# Altium footprint library FOC_BOARD.PcbLib: 14 footprints
Each footprint in its own frame and in the unit in brackets; x right, y up, seen from the top. Pads: shape width x height; smd on the part's side, far side on the other; paste and mask are expansions set on the pad; w line width, h text height; cw(c..) or ccw(c..) is an arc to the next point about the centre after c.
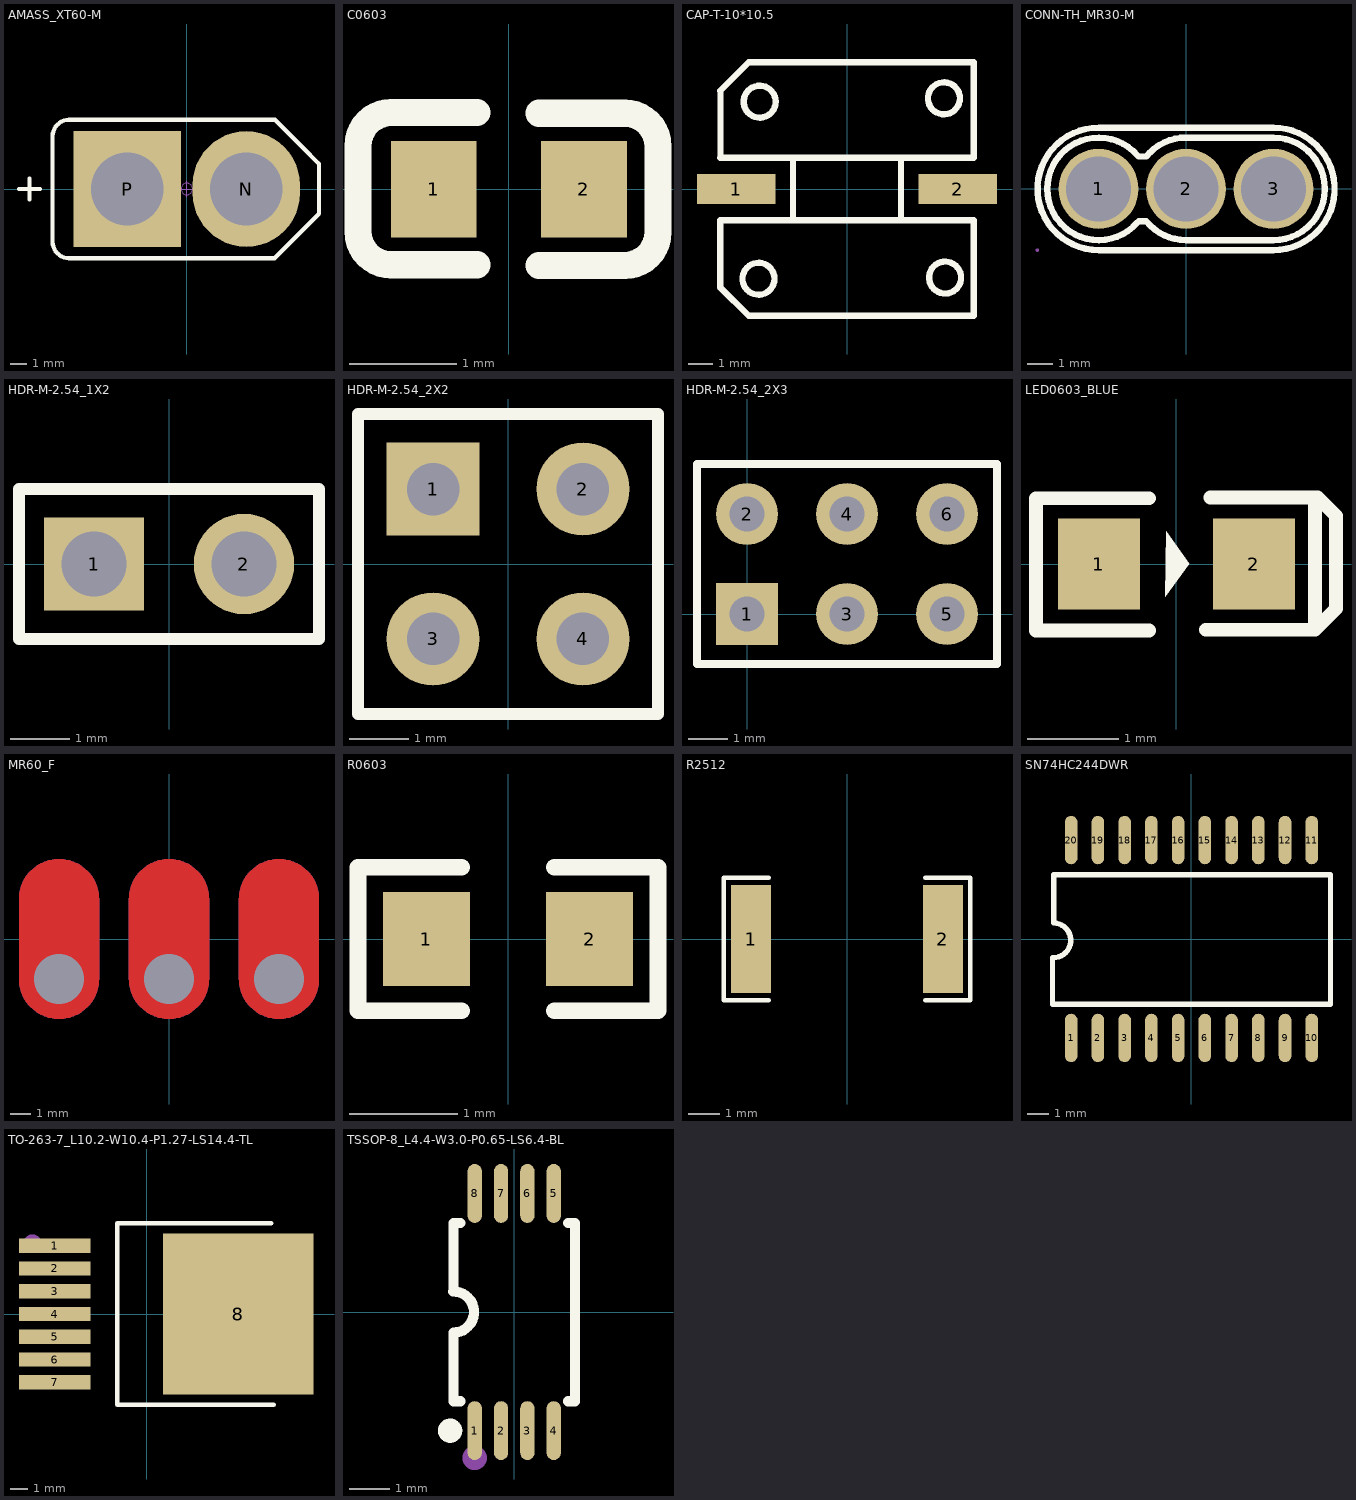
[diagram p0: the footprints below, top view; thin cyan lines are the x and y axes]

## AMASS_XT60-M [mm] "长：16mm，宽：8.2mm，高：16mm"
pads (2):
  oval 6.5x7 hole 4.4: N(3.6,0)
  rect 6.5x7 hole 4.4: P(-3.6,0)
Top Overlay:
  lines w0.254: -10.16,0 -8.89,0 ; -9.525,-0.635 -9.525,0.635 ; -8.128,-3.191 ccw(c-7.128,-3.191) -7.128,-4.191 5.309,-4.191 8,-1.5 8,1.525 6.985,2.54 5.334,4.191 -7.128,4.191 ccw(c-7.128,3.191) -8.128,3.191 -8.128,-3.191
Mechanical 15:
  circle w0.05: c0,0 r0.35
  lines w0.05: -0.5,0 0.5,0 ; 0,-0.5 0,0.5
3D body "TX60-LI-P.STEP": height 15.85, standoff -2.25, extent -8,-4.1 8,4.1

## C0603 [mm]
pads (2):
  rect 0.8x0.9 smd: 1(-0.7,0) 2(0.7,0)
Top Overlay:
  lines w0.254: -0.296,-0.704 -1.096,-0.704 cw(c-1.096,-0.394) -1.406,-0.394 -1.405,0.406 cw(c-1.096,0.406) -1.096,0.715 -0.296,0.715 ; 0.28,-0.71 1.08,-0.71 ccw(c1.08,-0.4) 1.39,-0.4 1.39,0.4 ccw(c1.08,0.4) 1.08,0.71 0.28,0.71
3D body "R0603.STEP": height 0.45, standoff 0, extent -0.825,-0.4 0.775,0.4

## CAP-T-10*10.5 [mm]
pads (2):
  rect 3.2x1.2 smd: 1(-4.5,0) 2(4.5,0)
Top Overlay:
  circle w0.254: c-3.599,-3.65 r0.65
  circle w0.254: c-3.551,3.551 r0.65
  circle w0.254: c3.99,-3.602 r0.65
  circle w0.254: c3.942,3.688 r0.65
  lines w0.254: -5.151,1.27 5.149,1.27 5.15,1.27 5.15,5.15 ; -5.15,-4.007 -5.15,-1.27 5.15,-1.27 5.15,-5.15 -4,-5.15 -5.143,-4.007 ; -5.15,4 -4,5.15 5.15,5.15 ; -5.143,1.27 -5.143,4 ; -2.2,-1.25 -2.2,1.25 ; 2.2,-1.239 2.2,1.261 ; 5.149,5.15 5.15,5.15
Mechanical 1:
  lines w0.254: -5.15,-4.007 -5.143,-4.007
3D body "SW3dPS-capacitor size G.STEP": height 10.21, standoff -0.01, extent -5.8,-5.118 5.8,5.182

## CONN-TH_MR30-M [mm]
pads (3):
  round 3.2 hole 2.6 mask+0.05: 1(-3.5,0) 2(0,0) 3(3.5,0)
Top Overlay:
  lines w0.254: 0,-2.051 cw(c0,0.001) -1.593,-1.293 -1.899,-1.293 -1.949,-1.344 cw(c-3.5,0) -1.949,1.344 -1.9,1.294 -1.593,1.294 cw(c0,0) 0,2.052 ; 0.01,-2.052 3.5,-2.052 ccw(c3.5,0) 3.5,2.052 0.01,2.052 ; -3.487,-2.45 cw(c-3.494,0) -3.487,2.45 3.487,2.45 cw(c3.494,0) 3.487,-2.45 -3.487,-2.45
Mechanical 6:
  drawing of 11 lines, arcs and shapes, not listed
Mechanical 15:
  region: 4.75,0 4.75,0.165 4.665,0.483 4.5,0.768 4.268,1 3.983,1.165 3.665,1.25 3.335,1.25 3.017,1.165 2.732,1 2.5,0.768 2.335,0.483 2.25,0.165 2.25,0 2.25,-0.165 2.335,-0.483 2.5,-0.768 2.732,-1 3.017,-1.165 3.335,-1.25 3.665,-1.25 3.983,-1.165 4.268,-1 4.5,-0.768 4.665,-0.483 4.75,-0.165 4.75,0
  region: 1.25,0 1.25,0.165 1.165,0.483 1,0.768 0.768,1 0.483,1.165 0.165,1.25 -0.164,1.25 -0.482,1.165 -0.767,1 -1,0.768 -1.165,0.483 -1.25,0.165 -1.25,0 -1.25,-0.165 -1.165,-0.483 -1,-0.768 -0.767,-1 -0.482,-1.165 -0.164,-1.25 0.165,-1.25 0.483,-1.165 0.768,-1 1,-0.768 1.165,-0.483 1.25,-0.165 1.25,0
  region: -2.25,0 -2.25,0.165 -2.335,0.483 -2.5,0.768 -2.732,1 -3.017,1.165 -3.335,1.25 -3.665,1.25 -3.983,1.165 -4.268,1 -4.5,0.768 -4.665,0.483 -4.75,0.165 -4.75,0 -4.75,-0.165 -4.665,-0.483 -4.5,-0.768 -4.268,-1 -3.983,-1.165 -3.665,-1.25 -3.335,-1.25 -3.017,-1.165 -2.732,-1 -2.5,-0.768 -2.335,-0.483 -2.25,-0.165 -2.25,0
  region: -5.885,-2.45 -5.885,-2.425 -5.92,-2.39 -5.969,-2.39 -6.004,-2.425 -6.004,-2.45 -6.004,-2.475 -5.969,-2.51 -5.92,-2.51 -5.885,-2.475 -5.885,-2.45
  lines w0.051: -5.944,0 cw(c-3.494,0) -3.494,2.45 -0.1,2.45 3.494,2.45 cw(c3.494,0) 5.944,0 cw(c3.494,0) 3.494,-2.45 0,-2.45 -3.494,-2.45 cw(c-3.494,0) -5.944,0

## HDR-M-2.54_1X2 [mm]
pads (2):
  rect 1.7x1.575 hole 1.1: 1(-1.27,0)
  round 1.7 hole 1.1: 2(1.27,0)
Top Overlay:
  lines w0.203: -2.54,-1.27 -2.54,1.27 -0.635,1.27 2.54,1.27 2.54,-1.27 -2.54,-1.27
3D body: height 1.27, standoff 0, extent -1.778,-0.508 -0.762,0.508
3D body: height 1.27, standoff 0, extent -1.346,-0.076 -1.194,0.076
3D body "HDR2.54-1P.STEP": height 8.5, standoff -3, extent -2.54,-1.27 0,1.27
3D body "HDR2.54-1P.STEP": height 8.5, standoff -3, extent 0,-1.27 2.54,1.27

## HDR-M-2.54_2X2 [mil]
pads (4):
  rect 62x62 hole 35: 1(-50,50)
  round 62 hole 35: 2(50,50) 3(-50,-50) 4(50,-50)
Top Overlay:
  lines w8: -100,-100 -100,100 100,100 100,-100 -100,-100
3D body "HDR2.54-1x2P.STEP": height 334.65, standoff -118.11, extent -100,-100 0,100
3D body "HDR2.54-1x2P.STEP": height 334.65, standoff -118.11, extent 0,-100 100,100

## HDR-M-2.54_2X3 [mil]
pads (6):
  rect 62x62 hole 35: 1(0,0)
  round 62 hole 35: 2(0,100) 3(100,0) 4(100,100) 5(200,0) 6(200,100)
Top Overlay:
  lines w8: 58.33,-50 250,-50 ; 250,-50 250,150 -50,150 -50,-50 250,-50
3D body "HDR2.54-1x2P.STEP": height 334.65, standoff -118.11, extent 50,-50 150,150
3D body "HDR2.54-1x2P.STEP": height 334.65, standoff -118.11, extent 150,-50 250,150
3D body "HDR2.54-1x2P.STEP": height 334.65, standoff -118.11, extent -50,-50 50,150

## LED0603_BLUE [mm]
pads (2):
  rect 0.9x1 smd: 1(-0.85,0) 2(0.85,0)
Top Overlay:
  region: -0.11,0.36 -0.12,-0.36 0.14,0
  lines w0.15: -0.3,-0.73 -1.54,-0.73 -1.54,0.72 -0.3,0.72 ; 0.32,-0.72 1.52,-0.72 ; 0.37,0.73 1.52,0.73 ; 1.52,-0.72 1.72,-0.52 1.75,-0.49 1.75,0.53 1.55,0.73 1.52,0.73 ; 1.52,-0.72 1.52,0.73
3D body "LED 0603-B.STEP": height 0.47, standoff 0, extent -0.8,-0.401 0.8,0.401

## MR60_F [mm]
pads (3):
  round 0 hole 2.5: 1(-5.5,-2) 2(0,-2) 3(5.5,-2)
Top Layer:
  region: 5.45,-3.999 5.351,-3.994 5.251,-3.984 5.153,-3.97 5.055,-3.95 4.958,-3.925 4.863,-3.896 4.769,-3.862 4.677,-3.823 4.588,-3.78 4.5,-3.732 4.415,-3.68 4.333,-3.624 4.253,-3.564 4.177,-3.5 4.104,-3.432 4.034,-3.36 3.968,-3.286 3.906,-3.208 3.848,-3.127 3.793,-3.043 3.744,-2.957 3.698,-2.868 3.657,-2.777 3.621,-2.684 3.589,-2.59 3.562,-2.494 3.54,-2.396 3.522,-2.298 3.51,-2.199 3.502,-2.1 3.5,-2 3.5,2 3.502,2.1 3.51,2.199 3.522,2.298 3.54,2.396 3.562,2.494 3.589,2.59 3.621,2.684 3.657,2.777 3.698,2.868 3.744,2.957 3.793,3.043 3.848,3.127 3.906,3.208 3.968,3.286 4.034,3.36 4.104,3.432 4.177,3.5 4.253,3.564 4.333,3.624 4.415,3.68 4.5,3.732 4.588,3.78 4.677,3.823 4.769,3.862 4.863,3.896 4.958,3.925 5.055,3.95 5.153,3.97 5.251,3.984 5.351,3.994 5.45,3.999 5.55,3.999 5.649,3.994 5.749,3.984 5.847,3.97 5.945,3.95 6.042,3.925 6.137,3.896 6.231,3.862 6.323,3.823 6.412,3.78 6.5,3.732 6.585,3.68 6.667,3.624 6.747,3.564 6.823,3.5 6.896,3.432 6.966,3.36 7.032,3.286 7.094,3.208 7.152,3.127 7.207,3.043 7.256,2.957 7.302,2.868 7.343,2.777 7.379,2.684 7.411,2.59 7.438,2.494 7.46,2.396 7.478,2.298 7.49,2.199 7.497,2.1 7.5,2 7.5,-2 7.497,-2.1 7.49,-2.199 7.478,-2.298 7.46,-2.396 7.438,-2.494 7.411,-2.59 7.379,-2.684 7.343,-2.777 7.302,-2.868 7.256,-2.957 7.207,-3.043 7.152,-3.127 7.094,-3.208 7.032,-3.286 6.966,-3.36 6.896,-3.432 6.823,-3.5 6.747,-3.564 6.667,-3.624 6.585,-3.68 6.5,-3.732 6.412,-3.78 6.323,-3.823 6.231,-3.862 6.137,-3.896 6.042,-3.925 5.945,-3.95 5.847,-3.97 5.749,-3.984 5.649,-3.994 5.55,-3.999
  region: -5.55,-3.999 -5.649,-3.994 -5.749,-3.984 -5.847,-3.97 -5.945,-3.95 -6.042,-3.925 -6.137,-3.896 -6.231,-3.862 -6.323,-3.823 -6.412,-3.78 -6.5,-3.732 -6.585,-3.68 -6.667,-3.624 -6.747,-3.564 -6.823,-3.5 -6.896,-3.432 -6.966,-3.36 -7.032,-3.286 -7.094,-3.208 -7.152,-3.127 -7.207,-3.043 -7.256,-2.957 -7.302,-2.868 -7.343,-2.777 -7.379,-2.684 -7.411,-2.59 -7.438,-2.494 -7.46,-2.396 -7.478,-2.298 -7.49,-2.199 -7.497,-2.1 -7.5,-2 -7.5,2 -7.497,2.1 -7.49,2.199 -7.478,2.298 -7.46,2.396 -7.438,2.494 -7.411,2.59 -7.379,2.684 -7.343,2.777 -7.302,2.868 -7.256,2.957 -7.207,3.043 -7.152,3.127 -7.094,3.208 -7.032,3.286 -6.966,3.36 -6.896,3.432 -6.823,3.5 -6.747,3.564 -6.667,3.624 -6.585,3.68 -6.5,3.732 -6.412,3.78 -6.323,3.823 -6.231,3.862 -6.137,3.896 -6.042,3.925 -5.945,3.95 -5.847,3.97 -5.749,3.984 -5.649,3.994 -5.55,3.999 -5.45,3.999 -5.351,3.994 -5.251,3.984 -5.153,3.97 -5.055,3.95 -4.958,3.925 -4.863,3.896 -4.769,3.862 -4.677,3.823 -4.588,3.78 -4.5,3.732 -4.415,3.68 -4.333,3.624 -4.253,3.564 -4.177,3.5 -4.104,3.432 -4.034,3.36 -3.968,3.286 -3.906,3.208 -3.848,3.127 -3.793,3.043 -3.744,2.957 -3.698,2.868 -3.657,2.777 -3.621,2.684 -3.589,2.59 -3.562,2.494 -3.54,2.396 -3.522,2.298 -3.51,2.199 -3.502,2.1 -3.5,2 -3.5,-2 -3.502,-2.1 -3.51,-2.199 -3.522,-2.298 -3.54,-2.396 -3.562,-2.494 -3.589,-2.59 -3.621,-2.684 -3.657,-2.777 -3.698,-2.868 -3.744,-2.957 -3.793,-3.043 -3.848,-3.127 -3.906,-3.208 -3.968,-3.286 -4.034,-3.36 -4.104,-3.432 -4.177,-3.5 -4.253,-3.564 -4.333,-3.624 -4.415,-3.68 -4.5,-3.732 -4.588,-3.78 -4.677,-3.823 -4.769,-3.862 -4.863,-3.896 -4.958,-3.925 -5.055,-3.95 -5.153,-3.97 -5.251,-3.984 -5.351,-3.994 -5.45,-3.999
  region: -0.05,-3.999 -0.149,-3.994 -0.249,-3.984 -0.347,-3.97 -0.445,-3.95 -0.542,-3.925 -0.637,-3.896 -0.731,-3.862 -0.823,-3.823 -0.912,-3.78 -1,-3.732 -1.085,-3.68 -1.167,-3.624 -1.247,-3.564 -1.323,-3.5 -1.396,-3.432 -1.466,-3.36 -1.532,-3.286 -1.594,-3.208 -1.652,-3.127 -1.707,-3.043 -1.756,-2.957 -1.802,-2.868 -1.843,-2.777 -1.879,-2.684 -1.911,-2.59 -1.938,-2.494 -1.96,-2.396 -1.978,-2.298 -1.99,-2.199 -1.998,-2.1 -2,-2 -2,2 -1.998,2.1 -1.99,2.199 -1.978,2.298 -1.96,2.396 -1.938,2.494 -1.911,2.59 -1.879,2.684 -1.843,2.777 -1.802,2.868 -1.756,2.957 -1.707,3.043 -1.652,3.127 -1.594,3.208 -1.532,3.286 -1.466,3.36 -1.396,3.432 -1.323,3.5 -1.247,3.564 -1.167,3.624 -1.085,3.68 -1,3.732 -0.912,3.78 -0.823,3.823 -0.731,3.862 -0.637,3.896 -0.542,3.925 -0.445,3.95 -0.347,3.97 -0.249,3.984 -0.149,3.994 -0.05,3.999 0.05,3.999 0.149,3.994 0.249,3.984 0.347,3.97 0.445,3.95 0.542,3.925 0.637,3.896 0.731,3.862 0.823,3.823 0.912,3.78 1,3.732 1.085,3.68 1.167,3.624 1.247,3.564 1.323,3.5 1.396,3.432 1.466,3.36 1.532,3.286 1.594,3.208 1.652,3.127 1.707,3.043 1.756,2.957 1.802,2.868 1.843,2.777 1.879,2.684 1.911,2.59 1.938,2.494 1.96,2.396 1.978,2.298 1.99,2.199 1.998,2.1 2,2 2,-2 1.998,-2.1 1.99,-2.199 1.978,-2.298 1.96,-2.396 1.938,-2.494 1.911,-2.59 1.879,-2.684 1.843,-2.777 1.802,-2.868 1.756,-2.957 1.707,-3.043 1.652,-3.127 1.594,-3.208 1.532,-3.286 1.466,-3.36 1.396,-3.432 1.323,-3.5 1.247,-3.564 1.167,-3.624 1.085,-3.68 1,-3.732 0.912,-3.78 0.823,-3.823 0.731,-3.862 0.637,-3.896 0.542,-3.925 0.445,-3.95 0.347,-3.97 0.249,-3.984 0.149,-3.994 0.05,-3.999
Mid-Layer 1:
  region: 5.45,-3.999 5.351,-3.994 5.251,-3.984 5.153,-3.97 5.055,-3.95 4.958,-3.925 4.863,-3.896 4.769,-3.862 4.677,-3.823 4.588,-3.78 4.5,-3.732 4.415,-3.68 4.333,-3.624 4.253,-3.564 4.177,-3.5 4.104,-3.432 4.034,-3.36 3.968,-3.286 3.906,-3.208 3.848,-3.127 3.793,-3.043 3.744,-2.957 3.698,-2.868 3.657,-2.777 3.621,-2.684 3.589,-2.59 3.562,-2.494 3.54,-2.396 3.522,-2.298 3.51,-2.199 3.502,-2.1 3.5,-2 3.5,2 3.502,2.1 3.51,2.199 3.522,2.298 3.54,2.396 3.562,2.494 3.589,2.59 3.621,2.684 3.657,2.777 3.698,2.868 3.744,2.957 3.793,3.043 3.848,3.127 3.906,3.208 3.968,3.286 4.034,3.36 4.104,3.432 4.177,3.5 4.253,3.564 4.333,3.624 4.415,3.68 4.5,3.732 4.588,3.78 4.677,3.823 4.769,3.862 4.863,3.896 4.958,3.925 5.055,3.95 5.153,3.97 5.251,3.984 5.351,3.994 5.45,3.999 5.55,3.999 5.649,3.994 5.749,3.984 5.847,3.97 5.945,3.95 6.042,3.925 6.137,3.896 6.231,3.862 6.323,3.823 6.412,3.78 6.5,3.732 6.585,3.68 6.667,3.624 6.747,3.564 6.823,3.5 6.896,3.432 6.966,3.36 7.032,3.286 7.094,3.208 7.152,3.127 7.207,3.043 7.256,2.957 7.302,2.868 7.343,2.777 7.379,2.684 7.411,2.59 7.438,2.494 7.46,2.396 7.478,2.298 7.49,2.199 7.497,2.1 7.5,2 7.5,-2 7.497,-2.1 7.49,-2.199 7.478,-2.298 7.46,-2.396 7.438,-2.494 7.411,-2.59 7.379,-2.684 7.343,-2.777 7.302,-2.868 7.256,-2.957 7.207,-3.043 7.152,-3.127 7.094,-3.208 7.032,-3.286 6.966,-3.36 6.896,-3.432 6.823,-3.5 6.747,-3.564 6.667,-3.624 6.585,-3.68 6.5,-3.732 6.412,-3.78 6.323,-3.823 6.231,-3.862 6.137,-3.896 6.042,-3.925 5.945,-3.95 5.847,-3.97 5.749,-3.984 5.649,-3.994 5.55,-3.999
  region: -5.55,-3.999 -5.649,-3.994 -5.749,-3.984 -5.847,-3.97 -5.945,-3.95 -6.042,-3.925 -6.137,-3.896 -6.231,-3.862 -6.323,-3.823 -6.412,-3.78 -6.5,-3.732 -6.585,-3.68 -6.667,-3.624 -6.747,-3.564 -6.823,-3.5 -6.896,-3.432 -6.966,-3.36 -7.032,-3.286 -7.094,-3.208 -7.152,-3.127 -7.207,-3.043 -7.256,-2.957 -7.302,-2.868 -7.343,-2.777 -7.379,-2.684 -7.411,-2.59 -7.438,-2.494 -7.46,-2.396 -7.478,-2.298 -7.49,-2.199 -7.497,-2.1 -7.5,-2 -7.5,2 -7.497,2.1 -7.49,2.199 -7.478,2.298 -7.46,2.396 -7.438,2.494 -7.411,2.59 -7.379,2.684 -7.343,2.777 -7.302,2.868 -7.256,2.957 -7.207,3.043 -7.152,3.127 -7.094,3.208 -7.032,3.286 -6.966,3.36 -6.896,3.432 -6.823,3.5 -6.747,3.564 -6.667,3.624 -6.585,3.68 -6.5,3.732 -6.412,3.78 -6.323,3.823 -6.231,3.862 -6.137,3.896 -6.042,3.925 -5.945,3.95 -5.847,3.97 -5.749,3.984 -5.649,3.994 -5.55,3.999 -5.45,3.999 -5.351,3.994 -5.251,3.984 -5.153,3.97 -5.055,3.95 -4.958,3.925 -4.863,3.896 -4.769,3.862 -4.677,3.823 -4.588,3.78 -4.5,3.732 -4.415,3.68 -4.333,3.624 -4.253,3.564 -4.177,3.5 -4.104,3.432 -4.034,3.36 -3.968,3.286 -3.906,3.208 -3.848,3.127 -3.793,3.043 -3.744,2.957 -3.698,2.868 -3.657,2.777 -3.621,2.684 -3.589,2.59 -3.562,2.494 -3.54,2.396 -3.522,2.298 -3.51,2.199 -3.502,2.1 -3.5,2 -3.5,-2 -3.502,-2.1 -3.51,-2.199 -3.522,-2.298 -3.54,-2.396 -3.562,-2.494 -3.589,-2.59 -3.621,-2.684 -3.657,-2.777 -3.698,-2.868 -3.744,-2.957 -3.793,-3.043 -3.848,-3.127 -3.906,-3.208 -3.968,-3.286 -4.034,-3.36 -4.104,-3.432 -4.177,-3.5 -4.253,-3.564 -4.333,-3.624 -4.415,-3.68 -4.5,-3.732 -4.588,-3.78 -4.677,-3.823 -4.769,-3.862 -4.863,-3.896 -4.958,-3.925 -5.055,-3.95 -5.153,-3.97 -5.251,-3.984 -5.351,-3.994 -5.45,-3.999
  region: -0.05,-3.999 -0.149,-3.994 -0.249,-3.984 -0.347,-3.97 -0.445,-3.95 -0.542,-3.925 -0.637,-3.896 -0.731,-3.862 -0.823,-3.823 -0.912,-3.78 -1,-3.732 -1.085,-3.68 -1.167,-3.624 -1.247,-3.564 -1.323,-3.5 -1.396,-3.432 -1.466,-3.36 -1.532,-3.286 -1.594,-3.208 -1.652,-3.127 -1.707,-3.043 -1.756,-2.957 -1.802,-2.868 -1.843,-2.777 -1.879,-2.684 -1.911,-2.59 -1.938,-2.494 -1.96,-2.396 -1.978,-2.298 -1.99,-2.199 -1.998,-2.1 -2,-2 -2,2 -1.998,2.1 -1.99,2.199 -1.978,2.298 -1.96,2.396 -1.938,2.494 -1.911,2.59 -1.879,2.684 -1.843,2.777 -1.802,2.868 -1.756,2.957 -1.707,3.043 -1.652,3.127 -1.594,3.208 -1.532,3.286 -1.466,3.36 -1.396,3.432 -1.323,3.5 -1.247,3.564 -1.167,3.624 -1.085,3.68 -1,3.732 -0.912,3.78 -0.823,3.823 -0.731,3.862 -0.637,3.896 -0.542,3.925 -0.445,3.95 -0.347,3.97 -0.249,3.984 -0.149,3.994 -0.05,3.999 0.05,3.999 0.149,3.994 0.249,3.984 0.347,3.97 0.445,3.95 0.542,3.925 0.637,3.896 0.731,3.862 0.823,3.823 0.912,3.78 1,3.732 1.085,3.68 1.167,3.624 1.247,3.564 1.323,3.5 1.396,3.432 1.466,3.36 1.532,3.286 1.594,3.208 1.652,3.127 1.707,3.043 1.756,2.957 1.802,2.868 1.843,2.777 1.879,2.684 1.911,2.59 1.938,2.494 1.96,2.396 1.978,2.298 1.99,2.199 1.998,2.1 2,2 2,-2 1.998,-2.1 1.99,-2.199 1.978,-2.298 1.96,-2.396 1.938,-2.494 1.911,-2.59 1.879,-2.684 1.843,-2.777 1.802,-2.868 1.756,-2.957 1.707,-3.043 1.652,-3.127 1.594,-3.208 1.532,-3.286 1.466,-3.36 1.396,-3.432 1.323,-3.5 1.247,-3.564 1.167,-3.624 1.085,-3.68 1,-3.732 0.912,-3.78 0.823,-3.823 0.731,-3.862 0.637,-3.896 0.542,-3.925 0.445,-3.95 0.347,-3.97 0.249,-3.984 0.149,-3.994 0.05,-3.999
Mid-Layer 2:
  region: 5.45,-3.999 5.351,-3.994 5.251,-3.984 5.153,-3.97 5.055,-3.95 4.958,-3.925 4.863,-3.896 4.769,-3.862 4.677,-3.823 4.588,-3.78 4.5,-3.732 4.415,-3.68 4.333,-3.624 4.253,-3.564 4.177,-3.5 4.104,-3.432 4.034,-3.36 3.968,-3.286 3.906,-3.208 3.848,-3.127 3.793,-3.043 3.744,-2.957 3.698,-2.868 3.657,-2.777 3.621,-2.684 3.589,-2.59 3.562,-2.494 3.54,-2.396 3.522,-2.298 3.51,-2.199 3.502,-2.1 3.5,-2 3.5,2 3.502,2.1 3.51,2.199 3.522,2.298 3.54,2.396 3.562,2.494 3.589,2.59 3.621,2.684 3.657,2.777 3.698,2.868 3.744,2.957 3.793,3.043 3.848,3.127 3.906,3.208 3.968,3.286 4.034,3.36 4.104,3.432 4.177,3.5 4.253,3.564 4.333,3.624 4.415,3.68 4.5,3.732 4.588,3.78 4.677,3.823 4.769,3.862 4.863,3.896 4.958,3.925 5.055,3.95 5.153,3.97 5.251,3.984 5.351,3.994 5.45,3.999 5.55,3.999 5.649,3.994 5.749,3.984 5.847,3.97 5.945,3.95 6.042,3.925 6.137,3.896 6.231,3.862 6.323,3.823 6.412,3.78 6.5,3.732 6.585,3.68 6.667,3.624 6.747,3.564 6.823,3.5 6.896,3.432 6.966,3.36 7.032,3.286 7.094,3.208 7.152,3.127 7.207,3.043 7.256,2.957 7.302,2.868 7.343,2.777 7.379,2.684 7.411,2.59 7.438,2.494 7.46,2.396 7.478,2.298 7.49,2.199 7.497,2.1 7.5,2 7.5,-2 7.497,-2.1 7.49,-2.199 7.478,-2.298 7.46,-2.396 7.438,-2.494 7.411,-2.59 7.379,-2.684 7.343,-2.777 7.302,-2.868 7.256,-2.957 7.207,-3.043 7.152,-3.127 7.094,-3.208 7.032,-3.286 6.966,-3.36 6.896,-3.432 6.823,-3.5 6.747,-3.564 6.667,-3.624 6.585,-3.68 6.5,-3.732 6.412,-3.78 6.323,-3.823 6.231,-3.862 6.137,-3.896 6.042,-3.925 5.945,-3.95 5.847,-3.97 5.749,-3.984 5.649,-3.994 5.55,-3.999
  region: -5.55,-3.999 -5.649,-3.994 -5.749,-3.984 -5.847,-3.97 -5.945,-3.95 -6.042,-3.925 -6.137,-3.896 -6.231,-3.862 -6.323,-3.823 -6.412,-3.78 -6.5,-3.732 -6.585,-3.68 -6.667,-3.624 -6.747,-3.564 -6.823,-3.5 -6.896,-3.432 -6.966,-3.36 -7.032,-3.286 -7.094,-3.208 -7.152,-3.127 -7.207,-3.043 -7.256,-2.957 -7.302,-2.868 -7.343,-2.777 -7.379,-2.684 -7.411,-2.59 -7.438,-2.494 -7.46,-2.396 -7.478,-2.298 -7.49,-2.199 -7.497,-2.1 -7.5,-2 -7.5,2 -7.497,2.1 -7.49,2.199 -7.478,2.298 -7.46,2.396 -7.438,2.494 -7.411,2.59 -7.379,2.684 -7.343,2.777 -7.302,2.868 -7.256,2.957 -7.207,3.043 -7.152,3.127 -7.094,3.208 -7.032,3.286 -6.966,3.36 -6.896,3.432 -6.823,3.5 -6.747,3.564 -6.667,3.624 -6.585,3.68 -6.5,3.732 -6.412,3.78 -6.323,3.823 -6.231,3.862 -6.137,3.896 -6.042,3.925 -5.945,3.95 -5.847,3.97 -5.749,3.984 -5.649,3.994 -5.55,3.999 -5.45,3.999 -5.351,3.994 -5.251,3.984 -5.153,3.97 -5.055,3.95 -4.958,3.925 -4.863,3.896 -4.769,3.862 -4.677,3.823 -4.588,3.78 -4.5,3.732 -4.415,3.68 -4.333,3.624 -4.253,3.564 -4.177,3.5 -4.104,3.432 -4.034,3.36 -3.968,3.286 -3.906,3.208 -3.848,3.127 -3.793,3.043 -3.744,2.957 -3.698,2.868 -3.657,2.777 -3.621,2.684 -3.589,2.59 -3.562,2.494 -3.54,2.396 -3.522,2.298 -3.51,2.199 -3.502,2.1 -3.5,2 -3.5,-2 -3.502,-2.1 -3.51,-2.199 -3.522,-2.298 -3.54,-2.396 -3.562,-2.494 -3.589,-2.59 -3.621,-2.684 -3.657,-2.777 -3.698,-2.868 -3.744,-2.957 -3.793,-3.043 -3.848,-3.127 -3.906,-3.208 -3.968,-3.286 -4.034,-3.36 -4.104,-3.432 -4.177,-3.5 -4.253,-3.564 -4.333,-3.624 -4.415,-3.68 -4.5,-3.732 -4.588,-3.78 -4.677,-3.823 -4.769,-3.862 -4.863,-3.896 -4.958,-3.925 -5.055,-3.95 -5.153,-3.97 -5.251,-3.984 -5.351,-3.994 -5.45,-3.999
  region: -0.05,-3.999 -0.149,-3.994 -0.249,-3.984 -0.347,-3.97 -0.445,-3.95 -0.542,-3.925 -0.637,-3.896 -0.731,-3.862 -0.823,-3.823 -0.912,-3.78 -1,-3.732 -1.085,-3.68 -1.167,-3.624 -1.247,-3.564 -1.323,-3.5 -1.396,-3.432 -1.466,-3.36 -1.532,-3.286 -1.594,-3.208 -1.652,-3.127 -1.707,-3.043 -1.756,-2.957 -1.802,-2.868 -1.843,-2.777 -1.879,-2.684 -1.911,-2.59 -1.938,-2.494 -1.96,-2.396 -1.978,-2.298 -1.99,-2.199 -1.998,-2.1 -2,-2 -2,2 -1.998,2.1 -1.99,2.199 -1.978,2.298 -1.96,2.396 -1.938,2.494 -1.911,2.59 -1.879,2.684 -1.843,2.777 -1.802,2.868 -1.756,2.957 -1.707,3.043 -1.652,3.127 -1.594,3.208 -1.532,3.286 -1.466,3.36 -1.396,3.432 -1.323,3.5 -1.247,3.564 -1.167,3.624 -1.085,3.68 -1,3.732 -0.912,3.78 -0.823,3.823 -0.731,3.862 -0.637,3.896 -0.542,3.925 -0.445,3.95 -0.347,3.97 -0.249,3.984 -0.149,3.994 -0.05,3.999 0.05,3.999 0.149,3.994 0.249,3.984 0.347,3.97 0.445,3.95 0.542,3.925 0.637,3.896 0.731,3.862 0.823,3.823 0.912,3.78 1,3.732 1.085,3.68 1.167,3.624 1.247,3.564 1.323,3.5 1.396,3.432 1.466,3.36 1.532,3.286 1.594,3.208 1.652,3.127 1.707,3.043 1.756,2.957 1.802,2.868 1.843,2.777 1.879,2.684 1.911,2.59 1.938,2.494 1.96,2.396 1.978,2.298 1.99,2.199 1.998,2.1 2,2 2,-2 1.998,-2.1 1.99,-2.199 1.978,-2.298 1.96,-2.396 1.938,-2.494 1.911,-2.59 1.879,-2.684 1.843,-2.777 1.802,-2.868 1.756,-2.957 1.707,-3.043 1.652,-3.127 1.594,-3.208 1.532,-3.286 1.466,-3.36 1.396,-3.432 1.323,-3.5 1.247,-3.564 1.167,-3.624 1.085,-3.68 1,-3.732 0.912,-3.78 0.823,-3.823 0.731,-3.862 0.637,-3.896 0.542,-3.925 0.445,-3.95 0.347,-3.97 0.249,-3.984 0.149,-3.994 0.05,-3.999
Bottom Layer:
  region: 5.45,-3.999 5.351,-3.994 5.251,-3.984 5.153,-3.97 5.055,-3.95 4.958,-3.925 4.863,-3.896 4.769,-3.862 4.677,-3.823 4.588,-3.78 4.5,-3.732 4.415,-3.68 4.333,-3.624 4.253,-3.564 4.177,-3.5 4.104,-3.432 4.034,-3.36 3.968,-3.286 3.906,-3.208 3.848,-3.127 3.793,-3.043 3.744,-2.957 3.698,-2.868 3.657,-2.777 3.621,-2.684 3.589,-2.59 3.562,-2.494 3.54,-2.396 3.522,-2.298 3.51,-2.199 3.502,-2.1 3.5,-2 3.5,2 3.502,2.1 3.51,2.199 3.522,2.298 3.54,2.396 3.562,2.494 3.589,2.59 3.621,2.684 3.657,2.777 3.698,2.868 3.744,2.957 3.793,3.043 3.848,3.127 3.906,3.208 3.968,3.286 4.034,3.36 4.104,3.432 4.177,3.5 4.253,3.564 4.333,3.624 4.415,3.68 4.5,3.732 4.588,3.78 4.677,3.823 4.769,3.862 4.863,3.896 4.958,3.925 5.055,3.95 5.153,3.97 5.251,3.984 5.351,3.994 5.45,3.999 5.55,3.999 5.649,3.994 5.749,3.984 5.847,3.97 5.945,3.95 6.042,3.925 6.137,3.896 6.231,3.862 6.323,3.823 6.412,3.78 6.5,3.732 6.585,3.68 6.667,3.624 6.747,3.564 6.823,3.5 6.896,3.432 6.966,3.36 7.032,3.286 7.094,3.208 7.152,3.127 7.207,3.043 7.256,2.957 7.302,2.868 7.343,2.777 7.379,2.684 7.411,2.59 7.438,2.494 7.46,2.396 7.478,2.298 7.49,2.199 7.497,2.1 7.5,2 7.5,-2 7.497,-2.1 7.49,-2.199 7.478,-2.298 7.46,-2.396 7.438,-2.494 7.411,-2.59 7.379,-2.684 7.343,-2.777 7.302,-2.868 7.256,-2.957 7.207,-3.043 7.152,-3.127 7.094,-3.208 7.032,-3.286 6.966,-3.36 6.896,-3.432 6.823,-3.5 6.747,-3.564 6.667,-3.624 6.585,-3.68 6.5,-3.732 6.412,-3.78 6.323,-3.823 6.231,-3.862 6.137,-3.896 6.042,-3.925 5.945,-3.95 5.847,-3.97 5.749,-3.984 5.649,-3.994 5.55,-3.999
  region: -5.55,-3.999 -5.649,-3.994 -5.749,-3.984 -5.847,-3.97 -5.945,-3.95 -6.042,-3.925 -6.137,-3.896 -6.231,-3.862 -6.323,-3.823 -6.412,-3.78 -6.5,-3.732 -6.585,-3.68 -6.667,-3.624 -6.747,-3.564 -6.823,-3.5 -6.896,-3.432 -6.966,-3.36 -7.032,-3.286 -7.094,-3.208 -7.152,-3.127 -7.207,-3.043 -7.256,-2.957 -7.302,-2.868 -7.343,-2.777 -7.379,-2.684 -7.411,-2.59 -7.438,-2.494 -7.46,-2.396 -7.478,-2.298 -7.49,-2.199 -7.497,-2.1 -7.5,-2 -7.5,2 -7.497,2.1 -7.49,2.199 -7.478,2.298 -7.46,2.396 -7.438,2.494 -7.411,2.59 -7.379,2.684 -7.343,2.777 -7.302,2.868 -7.256,2.957 -7.207,3.043 -7.152,3.127 -7.094,3.208 -7.032,3.286 -6.966,3.36 -6.896,3.432 -6.823,3.5 -6.747,3.564 -6.667,3.624 -6.585,3.68 -6.5,3.732 -6.412,3.78 -6.323,3.823 -6.231,3.862 -6.137,3.896 -6.042,3.925 -5.945,3.95 -5.847,3.97 -5.749,3.984 -5.649,3.994 -5.55,3.999 -5.45,3.999 -5.351,3.994 -5.251,3.984 -5.153,3.97 -5.055,3.95 -4.958,3.925 -4.863,3.896 -4.769,3.862 -4.677,3.823 -4.588,3.78 -4.5,3.732 -4.415,3.68 -4.333,3.624 -4.253,3.564 -4.177,3.5 -4.104,3.432 -4.034,3.36 -3.968,3.286 -3.906,3.208 -3.848,3.127 -3.793,3.043 -3.744,2.957 -3.698,2.868 -3.657,2.777 -3.621,2.684 -3.589,2.59 -3.562,2.494 -3.54,2.396 -3.522,2.298 -3.51,2.199 -3.502,2.1 -3.5,2 -3.5,-2 -3.502,-2.1 -3.51,-2.199 -3.522,-2.298 -3.54,-2.396 -3.562,-2.494 -3.589,-2.59 -3.621,-2.684 -3.657,-2.777 -3.698,-2.868 -3.744,-2.957 -3.793,-3.043 -3.848,-3.127 -3.906,-3.208 -3.968,-3.286 -4.034,-3.36 -4.104,-3.432 -4.177,-3.5 -4.253,-3.564 -4.333,-3.624 -4.415,-3.68 -4.5,-3.732 -4.588,-3.78 -4.677,-3.823 -4.769,-3.862 -4.863,-3.896 -4.958,-3.925 -5.055,-3.95 -5.153,-3.97 -5.251,-3.984 -5.351,-3.994 -5.45,-3.999
  region: -0.05,-3.999 -0.149,-3.994 -0.249,-3.984 -0.347,-3.97 -0.445,-3.95 -0.542,-3.925 -0.637,-3.896 -0.731,-3.862 -0.823,-3.823 -0.912,-3.78 -1,-3.732 -1.085,-3.68 -1.167,-3.624 -1.247,-3.564 -1.323,-3.5 -1.396,-3.432 -1.466,-3.36 -1.532,-3.286 -1.594,-3.208 -1.652,-3.127 -1.707,-3.043 -1.756,-2.957 -1.802,-2.868 -1.843,-2.777 -1.879,-2.684 -1.911,-2.59 -1.938,-2.494 -1.96,-2.396 -1.978,-2.298 -1.99,-2.199 -1.998,-2.1 -2,-2 -2,2 -1.998,2.1 -1.99,2.199 -1.978,2.298 -1.96,2.396 -1.938,2.494 -1.911,2.59 -1.879,2.684 -1.843,2.777 -1.802,2.868 -1.756,2.957 -1.707,3.043 -1.652,3.127 -1.594,3.208 -1.532,3.286 -1.466,3.36 -1.396,3.432 -1.323,3.5 -1.247,3.564 -1.167,3.624 -1.085,3.68 -1,3.732 -0.912,3.78 -0.823,3.823 -0.731,3.862 -0.637,3.896 -0.542,3.925 -0.445,3.95 -0.347,3.97 -0.249,3.984 -0.149,3.994 -0.05,3.999 0.05,3.999 0.149,3.994 0.249,3.984 0.347,3.97 0.445,3.95 0.542,3.925 0.637,3.896 0.731,3.862 0.823,3.823 0.912,3.78 1,3.732 1.085,3.68 1.167,3.624 1.247,3.564 1.323,3.5 1.396,3.432 1.466,3.36 1.532,3.286 1.594,3.208 1.652,3.127 1.707,3.043 1.756,2.957 1.802,2.868 1.843,2.777 1.879,2.684 1.911,2.59 1.938,2.494 1.96,2.396 1.978,2.298 1.99,2.199 1.998,2.1 2,2 2,-2 1.998,-2.1 1.99,-2.199 1.978,-2.298 1.96,-2.396 1.938,-2.494 1.911,-2.59 1.879,-2.684 1.843,-2.777 1.802,-2.868 1.756,-2.957 1.707,-3.043 1.652,-3.127 1.594,-3.208 1.532,-3.286 1.466,-3.36 1.396,-3.432 1.323,-3.5 1.247,-3.564 1.167,-3.624 1.085,-3.68 1,-3.732 0.912,-3.78 0.823,-3.823 0.731,-3.862 0.637,-3.896 0.542,-3.925 0.445,-3.95 0.347,-3.97 0.249,-3.984 0.149,-3.994 0.05,-3.999
Top Paste:
  drawing of 3 lines, arcs and shapes, not listed
Bottom Paste:
  drawing of 3 lines, arcs and shapes, not listed
Top Solder:
  drawing of 3 lines, arcs and shapes, not listed
Bottom Solder:
  drawing of 3 lines, arcs and shapes, not listed

## R0603 [mm]
pads (2):
  rect 0.806x0.864 smd: 1(-0.753,0) 2(0.753,0)
Top Overlay:
  lines w0.152: -0.426,-0.661 -1.385,-0.661 -1.385,0.661 -0.426,0.661 ; 0.426,-0.661 1.385,-0.661 1.385,0.661 0.426,0.661
Top Paste:
  region: -0.355,0.4 -0.355,0.172 -0.735,0.172 -0.735,-0.158 -0.355,-0.158 -0.355,-0.4 -0.405,-0.45 -1.195,-0.45 -1.245,-0.4 -1.245,0.4 -1.195,0.45 -0.405,0.45
  region: 1.195,0.45 0.395,0.45 0.345,0.4 0.345,0.172 0.715,0.172 0.715,-0.158 0.345,-0.158 0.345,-0.4 0.395,-0.45 1.195,-0.45 1.245,-0.4 1.245,0.4
3D body "R0603.STEP": height 0.45, standoff 0, extent -0.825,-0.4 0.775,0.4

## R2512 [mm]
pads (2):
  rect 1.283x3.456 smd: 1(-3.066,0) 2(3.066,0)
Top Overlay:
  lines w0.152: -2.501,-1.957 -3.936,-1.957 -3.936,1.957 -2.501,1.957 ; 2.501,-1.957 3.936,-1.957 3.936,1.957 2.501,1.957
Top Paste:
  region: -2.425,-1.628 -2.425,-0.688 -2.525,-0.588 -2.761,-0.588 -2.861,-0.488 -2.861,0.488 -2.761,0.588 -2.525,0.588 -2.425,0.688 -2.425,1.628 -2.525,1.728 -3.608,1.728 -3.708,1.628 -3.708,-1.628 -3.608,-1.728 -2.525,-1.728
  region: 2.425,-1.628 2.425,-0.688 2.525,-0.588 2.761,-0.588 2.861,-0.488 2.861,0.488 2.761,0.588 2.525,0.588 2.425,0.688 2.425,1.628 2.525,1.728 3.608,1.728 3.708,1.628 3.708,-1.628 3.608,-1.728 2.525,-1.728
3D body "RESC6432(2512).STEP": height 0.7, standoff 0, extent -3.2,-1.6 3.2,1.6

## SN74HC244DWR [mm]
pads (20):
  oval 0.6x2.3 smd: 1(-5.715,-4.7) 2(-4.445,-4.7) 3(-3.175,-4.7) 4(-1.905,-4.7) 5(-0.635,-4.7) 6(0.635,-4.7) 7(1.905,-4.7) 8(3.175,-4.7) 9(4.445,-4.7) 10(5.715,-4.7) 11(5.715,4.7) 12(4.445,4.7) 13(3.175,4.7) 14(1.905,4.7) 15(0.635,4.7) 16(-0.635,4.7) 17(-1.905,4.7) 18(-3.175,4.7) 19(-4.445,4.7) 20(-5.715,4.7)
Top Overlay:
  lines w0.254: -6.604,-0.879 -6.604,-3.096 6.604,-3.096 6.604,3.048 -6.547,3.048 -6.547,0.762 cw(c-6.56,-0.064) -6.573,-0.889
3D body "SN74HC244DWR.stp": height 1.75, standoff 0, extent -6.4,-5.165 6.4,5.165

## TO-263-7_L10.2-W10.4-P1.27-LS14.4-TL [mm]
pads (8):
  rect 4x0.8 smd: 1(-5.123,3.81) 2(-5.123,2.54) 3(-5.123,1.27) 4(-5.123,0) 5(-5.123,-1.27) 6(-5.123,-2.54) 7(-5.123,-3.81)
  rect 8.4x9 smd: 8(5.123,0)
Top Overlay:
  lines w0.254: 6.958,5.076 -1.649,5.076 -1.649,-5.076 7.085,-5.076
Mechanical 15:
  circle w0.5: c-6.377,3.937 r0.25
3D body "BTN7960BAUMA1.STEP": height 4.4, standoff 0, extent -5.545,-5.077 9.355,4.823

## TSSOP-8_L4.4-W3.0-P0.65-LS6.4-BL [mm]
pads (8):
  oval 0.353x1.454 smd: 1(-0.975,-2.927) 2(-0.325,-2.927) 3(0.325,-2.927) 4(0.975,-2.927) 5(0.975,2.927) 6(0.325,2.927) 7(-0.325,2.927) 8(-0.975,2.927)
Top Overlay:
  circle w0.3: c-1.581,-2.927 r0.15
  lines w0.254: -1.501,0.508 cw(c-1.501,0) -1.5,-0.508 -1.5,-2.2 -1.328,-2.2 ; -1.5,0.508 -1.5,2.2 -1.328,2.2 ; 1.328,-2.2 1.5,-2.2 1.5,2.2 1.328,2.2
Mechanical 15:
  circle w0.3: c-0.975,-3.6 r0.15
3D body "INA240A2PWR.STEP": height 1.2, standoff 0, extent -1.5,-3.454 1.5,2.946